# Altium footprint library DO-15.PcbLib: 1 footprints
Each footprint in its own frame and in the unit in brackets; x right, y up, seen from the top. Pads: shape width x height; smd on the part's side, far side on the other; paste and mask are expansions set on the pad; w line width, h text height; cw(c..) or ccw(c..) is an arc to the next point about the centre after c.
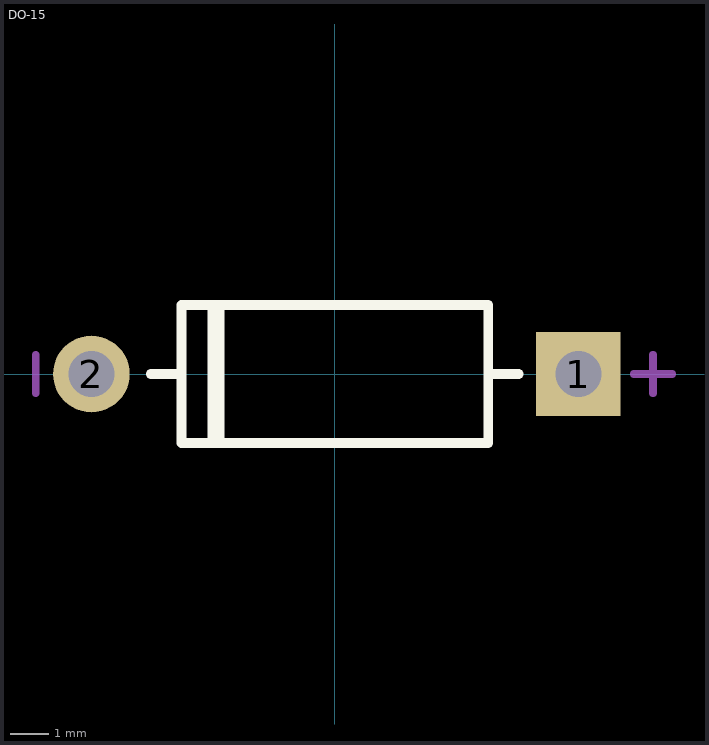
[diagram p0: the footprint, top view; thin cyan lines are the x and y axes]

## DO-15 [mm]
pads (2):
  rect 2.2x2.2 hole 1.2: 1(6.35,0)
  round 2 hole 1.2: 2(-6.35,0)
Top Overlay:
  lines w0.254: -4.8,0 -4,0 ; -3.2,-1.8 -3.2,1.8 ; -3,-1.8 -3,1.8 ; 4,0 4.8,0 ; -4,-1.8 4,-1.8 4,1.8 -4,1.8 -4,-1.8
Mechanical 15:
  lines w0.203: -7.8,-0.5 -7.8,0.5 ; 7.8,0 8.8,0 ; 8.3,-0.5 8.3,0.5
3D body: height 4.03, standoff -1.5, extent -6.875,-1.749 6.875,1.748